# Altium schematic symbol library FXLS8471QR1.SchLib: 1 symbol
Pins are listed as number, name and electrical type; pins without a type are passive.

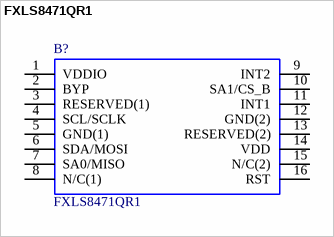
[diagram p0: symbol FXLS8471QR1]

## FXLS8471QR1
designator B?
FXLS8471Q:; Manufacturer_Name: Nexperia; Geometry.Height: 1mm; Supplier_Name: RS; RS Part Number: *; Manufacturer_Part_Number: FXLS8471QR1; Allied_Number: *; Other Part Number: *; Datasheet Link: http://cache.nxp.com/files/sensors/doc/data_sheet/FXLS8471Q.pdf; 3D Package: *
footprint PQFN50P300X300X100-16N
pins: 1 VDDIO (power), 2 BYP, 3 RESERVED(1), 4 SCL/SCLK, 5 GND(1), 6 SDA/MOSI, 7 SA0/MISO, 8 N/C(1), 9 INT2, 10 SA1/CS_B, 11 INT1, 12 GND(2), 13 RESERVED(2), 14 VDD (power), 15 N/C(2), 16 RST